# Altium footprint library lib.PcbLib: 35 footprints (part 2 of 3)
Each footprint in its own frame and in the unit in brackets; x right, y up, seen from the top. Pads: shape width x height; smd on the part's side, far side on the other; paste and mask are expansions set on the pad; w line width, h text height; cw(c..) or ccw(c..) is an arc to the next point about the centre after c.
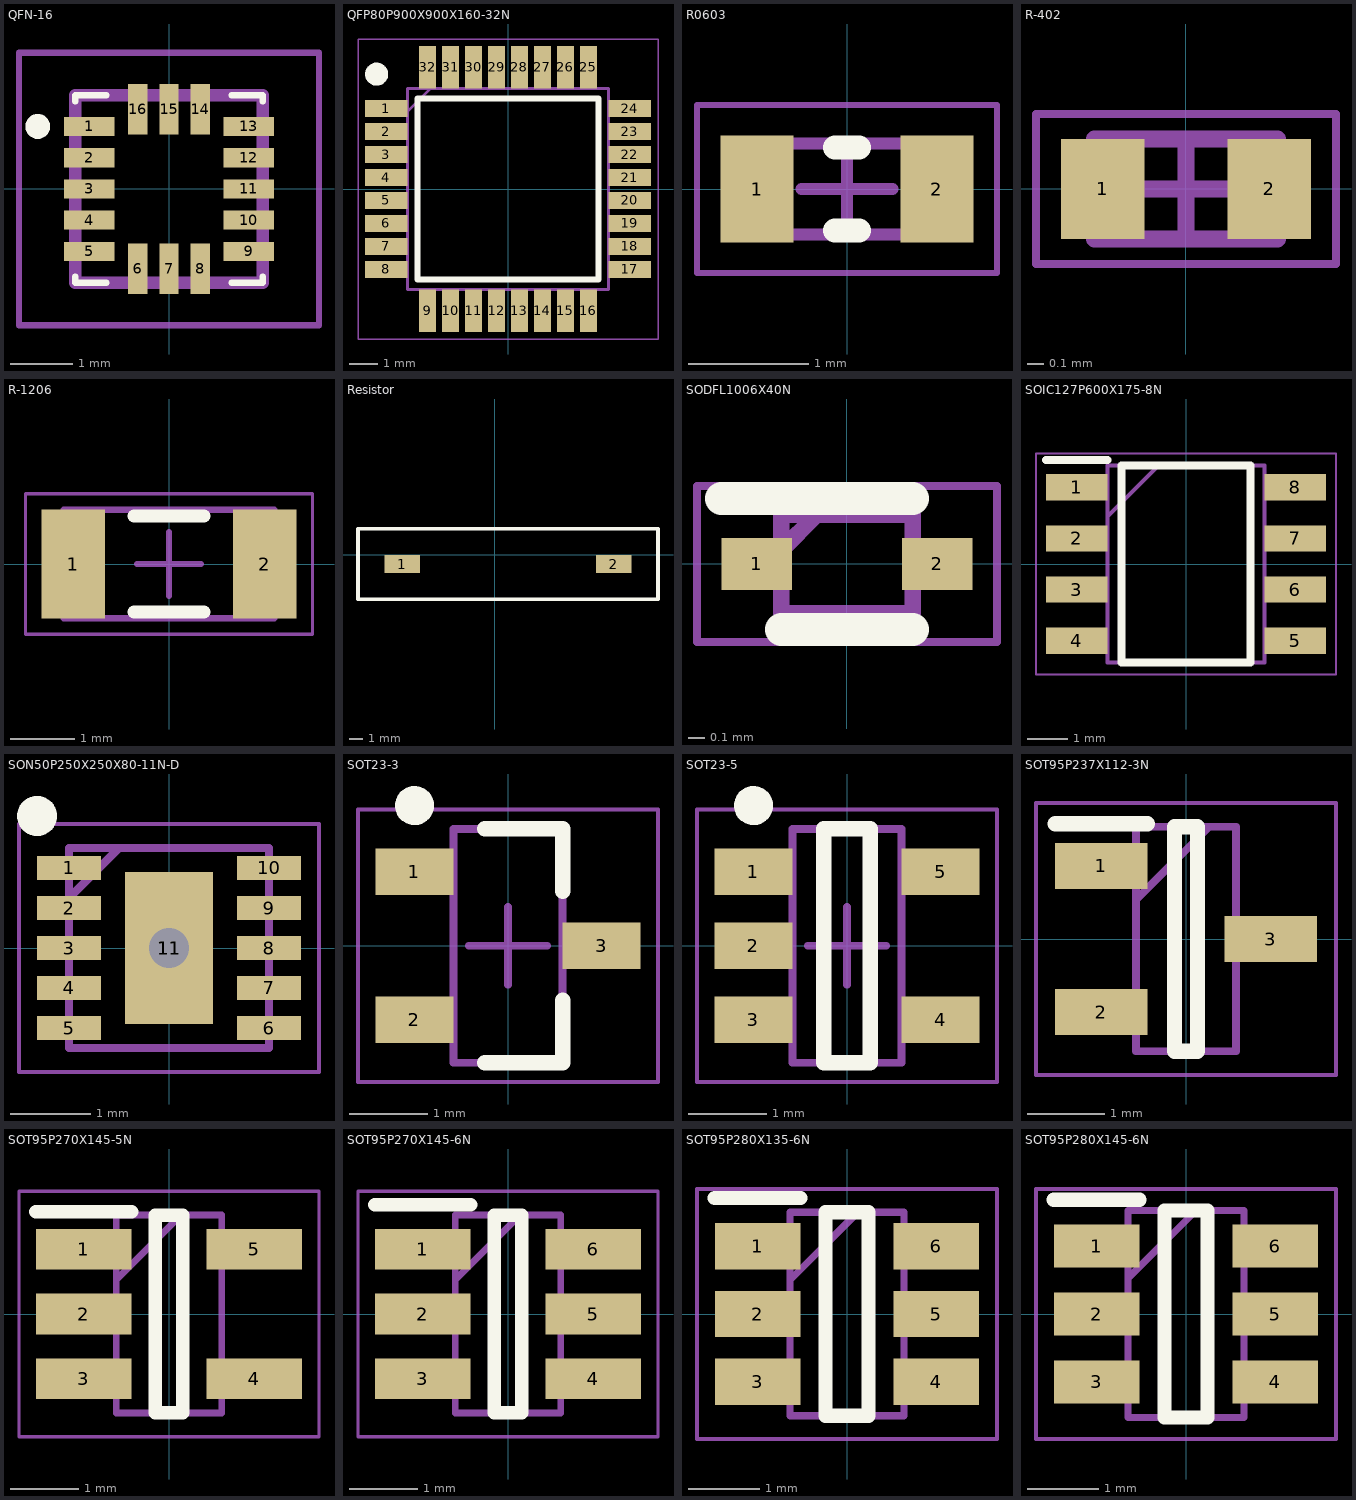
[diagram p1: the footprints below, top view; thin cyan lines are the x and y axes]

## QFN-16 [mm]
pads (16):
  rect 0.813x0.305 smd: 1(-1.275,1) 2(-1.275,0.5) 3(-1.275,0) 4(-1.275,-0.5) 5(-1.275,-1) 9(1.275,-1) 10(1.275,-0.5) 11(1.275,0) 12(1.275,0.5) 13(1.275,1)
  rect 0.305x0.813 smd: 6(-0.5,-1.275) 7(0,-1.275) 8(0.5,-1.275) 14(0.5,1.275) 15(0,1.275) 16(-0.5,1.275)
Top Overlay:
  lines w0.1: -1.5,-1.4 -1.5,-1.5 -1,-1.5 ; -1.5,1.4 -1.5,1.5 -1,1.5 ; 1,-1.5 1.5,-1.5 1.5,-1.4 ; 1,1.5 1.5,1.5 1.5,1.4
  lines w0.2: -2.1,0.9 ccw(c-2.1,1) -2.1,1.1 ccw(c-2.1,1) -2.1,0.9
Mechanical 13:
  lines w0.2: -1.5,-1.5 1.5,-1.5 1.5,1.5 -1.5,1.5 -1.5,-1.5
Mechanical 15:
  lines w0.1: -2.4,-2.182 2.4,-2.182 2.4,2.181 -2.4,2.181 -2.4,-2.182
3D body "qfn-16-5x3.step": height 1.06, standoff 0.01, extent -1.5,-1.5 1.5,1.5

## QFP80P900X900X160-32N [mm]
pads (32):
  rect 1.475x0.6 smd: 1(-4.238,2.8) 2(-4.238,2) 3(-4.238,1.2) 4(-4.238,0.4) 5(-4.238,-0.4) 6(-4.238,-1.2) 7(-4.238,-2) 8(-4.238,-2.8) 17(4.238,-2.8) 18(4.238,-2) 19(4.238,-1.2) 20(4.238,-0.4) 21(4.238,0.4) 22(4.238,1.2) 23(4.238,2) 24(4.238,2.8)
  rect 0.6x1.475 smd: 9(-2.8,-4.238) 10(-2,-4.238) 11(-1.2,-4.238) 12(-0.4,-4.238) 13(0.4,-4.238) 14(1.2,-4.238) 15(2,-4.238) 16(2.8,-4.238) 25(2.8,4.238) 26(2,4.238) 27(1.2,4.238) 28(0.4,4.238) 29(-0.4,4.238) 30(-1.2,4.238) 31(-2,4.238) 32(-2.8,4.238)
Top Overlay:
  circle w0.4: c-4.575,4 r0.2
  lines w0.2: -3.15,-3.15 3.15,-3.15 3.15,3.15 -3.15,3.15 -3.15,-3.15
Mechanical 13:
  lines w0.1: -3.5,2.7 -2.7,3.5 ; -3.5,-3.5 3.5,-3.5 3.5,3.5 -3.5,3.5 -3.5,-3.5
Mechanical 15:
  lines w0.05: -5.225,-5.225 5.225,-5.225 5.225,5.225 -5.225,5.225 -5.225,-5.225
3D body "STM32L011K4T6.stp": height 1.6, standoff 0, extent -4.5,-4.5 4.5,4.5

## R0603 [mil]
height 18.11
pads (2):
  rect 24x35 smd: 1(-29.5,0) 2(29.5,0)
Top Overlay:
  lines w7.87: -3.94,-13.56 3.94,-13.56 ; -3.94,13.56 3.94,13.56
Mechanical 13:
  lines w3.94: -29.92,-14.96 29.92,-14.96 29.92,14.96 -29.92,14.96 -29.92,-14.96
Mechanical 15:
  lines w1.97: -49.21,-27.56 49.21,-27.56 49.21,27.56 -49.21,27.56 -49.21,-27.56
  lines w3.94: -14.96,0 14.96,0 ; 0,-14.96 0,14.96
3D body "R0603.step": height 18, standoff 0, extent -29.92,-14.96 29.92,14.96

## R-402 [mm]
height 0.35
pads (2):
  rect 0.5x0.6 smd: 1(-0.5,0) 2(0.5,0)
Mechanical 13:
  lines w0.1: -0.55,-0.3 0.55,-0.3 0.55,0.3 -0.55,0.3 -0.55,-0.3
Mechanical 15:
  lines w0.05: -0.9,-0.45 0.9,-0.45 0.9,0.45 -0.9,0.45 -0.9,-0.45
  lines w0.1: -0.3,0 0.3,0 ; 0,-0.3 0,0.3
3D body "R-402.step": height 0.35, standoff 0, extent -0.55,-0.3 0.55,0.3

## R-1206 [mm] "Chip Resistor, 2-Leads, Body 3,20x1,60mm, IPC Medium Density"
height 0.6
pads (2):
  rect 1x1.7 smd: 1(-1.5,0) 2(1.5,0)
Top Overlay:
  lines w0.2: -0.55,-0.75 0.55,-0.75 ; -0.55,0.75 0.55,0.75
Mechanical 13:
  lines w0.1: -1.65,-0.85 1.65,-0.85 1.65,0.85 -1.65,0.85 -1.65,-0.85
Mechanical 15:
  lines w0.05: -2.25,-1.1 2.25,-1.1 2.25,1.1 -2.25,1.1 -2.25,-1.1
  lines w0.1: -0.5,0 0.5,0 ; 0,-0.5 0,0.5
3D body "R-1206.step": height 0.6, standoff 0, extent -1.65,-0.85 1.65,0.85

## Resistor [mm]
pads (2):
  rect 2.54x1.27 smd: 1(-6.67,-0.65) 2(8.57,-0.65)
Top Overlay:
  lines w0.254: -9.845,-3.19 -9.845,-0.65 -9.845,1.89 11.745,1.89 11.745,-3.19 -9.845,-3.19

## SODFL1006X40N [mm]
pads (2):
  rect 0.43x0.32 smd: 1(-0.55,0) 2(0.55,0)
Top Overlay:
  lines w0.2: -0.765,0.4 0.4,0.4 ; -0.4,-0.4 0.4,-0.4
Mechanical 13:
  lines w0.1: -0.4,0.085 -0.185,0.3 ; -0.4,-0.3 -0.4,0.3 0.4,0.3 0.4,-0.3 -0.4,-0.3
Mechanical 15:
  lines w0.05: -0.915,-0.475 -0.915,0.475 0.915,0.475 0.915,-0.475 -0.915,-0.475
3D body "ESD9L5.0ST5G.stp": height 0.4, standoff 0, extent -0.5,-0.3 0.5,0.3

## SOIC127P600X175-8N [mm]
pads (8):
  rect 1.525x0.65 smd: 1(-2.712,1.905) 2(-2.712,0.635) 3(-2.712,-0.635) 4(-2.712,-1.905) 5(2.712,-1.905) 6(2.712,-0.635) 7(2.712,0.635) 8(2.712,1.905)
Top Overlay:
  lines w0.2: -3.475,2.58 -1.95,2.58 ; -1.6,-2.45 -1.6,2.45 1.6,2.45 1.6,-2.45 -1.6,-2.45
Mechanical 13:
  lines w0.1: -1.95,1.18 -0.68,2.45 ; -1.95,-2.45 -1.95,2.45 1.95,2.45 1.95,-2.45 -1.95,-2.45
Mechanical 15:
  lines w0.05: -3.725,-2.75 -3.725,2.75 3.725,2.75 3.725,-2.75 -3.725,-2.75
3D body "NE555DR.stp": height 1.75, standoff 0, extent -3,-2.45 3,2.45

## SON50P250X250X80-11N-D [mm]
pads (12):
  rect 0.8x0.3 smd: 1(-1.25,1) 2(-1.25,0.5) 3(-1.25,0) 4(-1.25,-0.5) 5(-1.25,-1) 6(1.25,-1) 7(1.25,-0.5) 8(1.25,0) 9(1.25,0.5) 10(1.25,1)
  round 0.7 hole 0.5: 11(0,0)
  rect 1.1x1.9 smd: 11(0.002,0)
Top Overlay:
  circle w0.25: c-1.65,1.65 r0.125
Mechanical 13:
  lines w0.1: -1.25,0.625 -0.625,1.25 ; -1.25,-1.25 -1.25,1.25 1.25,1.25 1.25,-1.25 -1.25,-1.25
Mechanical 15:
  lines w0.05: -1.875,-1.55 -1.875,1.55 1.875,1.55 1.875,-1.55 -1.875,-1.55
3D body "TPS63031DSKT.stp": height 0.8, standoff 0, extent -1.3,-1.25 1.3,1.25

## SOT23-3 [mm] "SOT23, 3-Leads, Body 2,90x2,45mm, Pitch 0,95mm, IPC Medium Density"
height 1.1
pads (3):
  rect 1x0.6 smd: 1(-1.2,0.95) 2(-1.2,-0.95) 3(1.2,0)
Top Overlay:
  circle w0.25: c-1.2,1.8 r0.125
  lines w0.2: -0.3,-1.5 0.7,-1.5 0.7,-0.7 ; -0.3,1.5 0.7,1.5 0.7,0.7
Mechanical 13:
  lines w0.1: -0.7,-1.5 -0.7,1.5 0.7,1.5 0.7,-1.5 -0.7,-1.5
Mechanical 15:
  lines w0.05: -1.925,-1.75 -1.925,1.75 1.925,1.75 1.925,-1.75 -1.925,-1.75
  lines w0.1: -0.5,0 0.5,0 ; 0,-0.5 0,0.5
3D body "SOT-23.step": height 1.11, standoff 0.01, extent -1.25,-1.5 1.25,1.5

## SOT23-5 [mm] "SOT23, 5-Leads, Body 2,90x2,45mm, Pitch 0,95mm, IPC Medium Density"
height 1.1
pads (5):
  rect 1x0.6 smd: 1(-1.2,0.95) 2(-1.2,0) 3(-1.2,-0.95) 4(1.2,-0.95) 5(1.2,0.95)
Top Overlay:
  circle w0.25: c-1.2,1.8 r0.125
  lines w0.2: -0.3,-1.5 0.3,-1.5 0.3,1.5 -0.3,1.5 -0.3,-1.5
Mechanical 13:
  lines w0.1: -0.7,-1.5 -0.7,1.5 0.7,1.5 0.7,-1.5 -0.7,-1.5
Mechanical 15:
  lines w0.05: -1.925,-1.75 -1.925,1.75 1.925,1.75 1.925,-1.75 -1.925,-1.75
  lines w0.1: -0.5,0 0.5,0 ; 0,-0.5 0,0.5
3D body "SOT-23-5.step": height 1.11, standoff 0.01, extent -1.25,-1.5 1.25,1.5

## SOT95P237X112-3N [mm]
pads (3):
  rect 1.2x0.6 smd: 1(-1.1,0.95) 2(-1.1,-0.95) 3(1.1,0)
Top Overlay:
  lines w0.2: -1.7,1.5 -0.5,1.5 ; -0.15,-1.46 -0.15,1.46 0.15,1.46 0.15,-1.46 -0.15,-1.46
Mechanical 13:
  lines w0.1: -0.65,0.51 0.3,1.46 ; -0.65,-1.46 -0.65,1.46 0.65,1.46 0.65,-1.46 -0.65,-1.46
Mechanical 15:
  lines w0.05: -1.95,-1.77 -1.95,1.77 1.95,1.77 1.95,-1.77 -1.95,-1.77
3D body "FDN306P.stp": height 1.12, standoff 0, extent -1.185,-1.46 1.185,1.46

## SOT95P270X145-5N [mm]
pads (5):
  rect 1.4x0.6 smd: 1(-1.25,0.95) 2(-1.25,0) 3(-1.25,-0.95) 4(1.25,-0.95) 5(1.25,0.95)
Top Overlay:
  lines w0.2: -1.95,1.5 -0.55,1.5 ; -0.2,-1.45 -0.2,1.45 0.2,1.45 0.2,-1.45 -0.2,-1.45
Mechanical 13:
  lines w0.1: -0.775,0.5 0.175,1.45 ; -0.775,-1.45 -0.775,1.45 0.775,1.45 0.775,-1.45 -0.775,-1.45
Mechanical 15:
  lines w0.05: -2.2,-1.8 -2.2,1.8 2.2,1.8 2.2,-1.8 -2.2,-1.8
3D body "MCP73831T-5ACI_OT.stp": height 1.45, standoff 0, extent -1.35,-1.45 1.35,1.45

## SOT95P270X145-6N [mm]
pads (6):
  rect 1.4x0.6 smd: 1(-1.25,0.95) 2(-1.25,0) 3(-1.25,-0.95) 4(1.25,-0.95) 5(1.25,0) 6(1.25,0.95)
Top Overlay:
  lines w0.2: -1.95,1.6 -0.55,1.6 ; -0.2,-1.45 0.2,-1.45 0.2,1.45 -0.2,1.45 -0.2,-1.45
Mechanical 13:
  lines w0.1: -0.775,0.5 0.175,1.45 ; -0.775,-1.45 0.775,-1.45 0.775,1.45 -0.775,1.45 -0.775,-1.45
Mechanical 15:
  lines w0.05: -2.2,-1.8 2.2,-1.8 2.2,1.8 -2.2,1.8 -2.2,-1.8
3D body "MTCH101-I_OT.stp": height 1.45, standoff 0, extent -1.35,-1.45 1.35,1.45

## SOT95P280X135-6N [mm]
pads (6):
  rect 1.2x0.65 smd: 1(-1.25,0.95) 2(-1.25,0) 3(-1.25,-0.95) 4(1.25,-0.95) 5(1.25,0) 6(1.25,0.95)
Top Overlay:
  lines w0.2: -1.85,1.625 -0.65,1.625 ; -0.3,-1.425 0.3,-1.425 0.3,1.425 -0.3,1.425 -0.3,-1.425
Mechanical 13:
  lines w0.1: -0.8,0.475 0.15,1.425 ; -0.8,-1.425 0.8,-1.425 0.8,1.425 -0.8,1.425 -0.8,-1.425
Mechanical 15:
  lines w0.05: -2.1,-1.75 2.1,-1.75 2.1,1.75 -2.1,1.75 -2.1,-1.75
3D body "DW01A-G.stp": height 1.35, standoff 0, extent -1.4,-1.425 1.4,1.425

## SOT95P280X145-6N [mm]
pads (6):
  rect 1.2x0.6 smd: 1(-1.25,0.95) 2(-1.25,0) 3(-1.25,-0.95) 4(1.25,-0.95) 5(1.25,0) 6(1.25,0.95)
Top Overlay:
  lines w0.2: -1.85,1.6 -0.65,1.6 ; -0.3,-1.45 0.3,-1.45 0.3,1.45 -0.3,1.45 -0.3,-1.45
Mechanical 13:
  lines w0.1: -0.812,0.5 0.138,1.45 ; -0.812,-1.45 0.812,-1.45 0.812,1.45 -0.812,1.45 -0.812,-1.45
Mechanical 15:
  lines w0.05: -2.1,-1.75 2.1,-1.75 2.1,1.75 -2.1,1.75 -2.1,-1.75
3D body "AT42QT1010-TSHR.stp": height 1.45, standoff 0, extent -1.4,-1.45 1.4,1.45